# Altium schematic symbol library tps55165qpwprq1.SchLib: 1 symbol
Pins are listed as number, name and electrical type; pins without a type are passive.

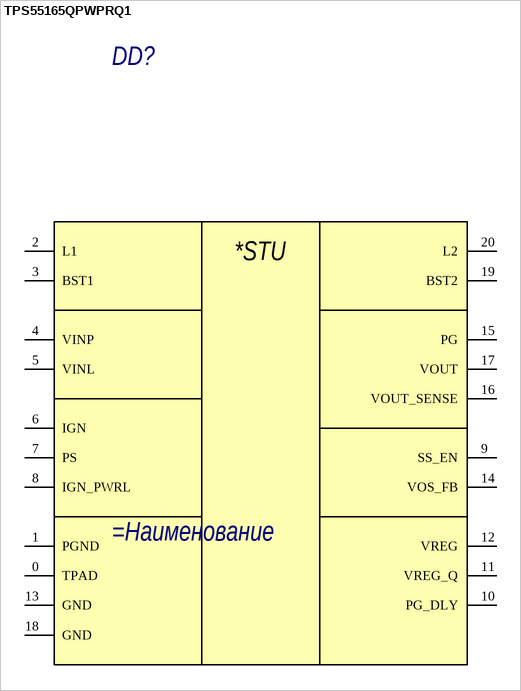
[diagram p0: symbol TPS55165QPWPRQ1]

## TPS55165QPWPRQ1
designator DD?
=Описание
footprint HTSSOP-20
pins: 0 TPAD, 1 PGND, 2 L1, 3 BST1, 4 VINP, 5 VINL, 6 IGN, 7 PS, 8 IGN_PWRL, 9 SS_EN, 10 PG_DLY, 11 VREG_Q, 12 VREG, 13 GND, 14 VOS_FB, 15 PG, 16 VOUT_SENSE, 17 VOUT, 18 GND, 19 BST2, 20 L2
text: *STU